# EAGLE library part PCA9665PW (library IC)
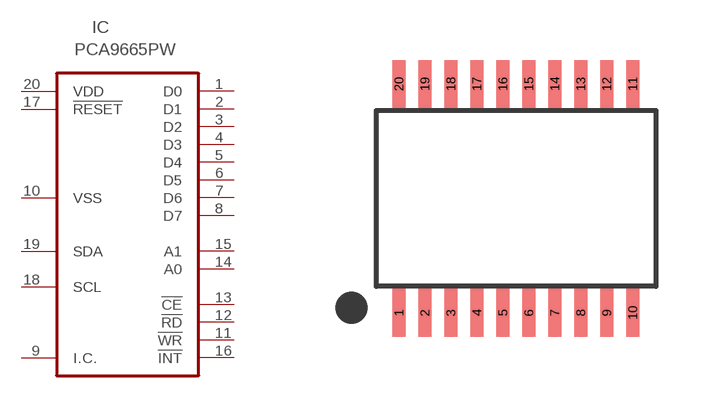
[diagram p6: symbol with the pads of SSOP20-0.65; footprint SSOP20-0.65]

Designator prefix IC

## PCA9665PW  [SSOP20-0.65]
1  D0  in
2  D1  in
3  D2  in
4  D3  in
5  D4  in
6  D5  in
7  D6  in
8  D7  in
9  I.C.  nc
10  VSS  pwr
11  !WR  in
12  !RD  in
13  !CE  in
14  A0  in
15  A1  in
16  !INT  out
17  !RESET  in
18  SCL
19  SDA
20  VDD  pwr

## Footprint SSOP20-0.65 (pad centres in mm)
smd 0.33 x 1.2: 1 -2.925,-2.86; 2 -2.275,-2.86; 3 -1.625,-2.86; 4 -0.975,-2.86; 5 -0.325,-2.86; 6 0.325,-2.86; 7 0.975,-2.86; 8 1.625,-2.86; 9 2.275,-2.86; 10 2.925,-2.86; 11 2.925,2.86; 12 2.275,2.86; 13 1.625,2.86; 14 0.975,2.86; 15 0.325,2.86; 16 -0.325,2.86; 17 -0.975,2.86; 18 -1.625,2.86; 19 -2.275,2.86; 20 -2.925,2.86